# EAGLE library part 1.27_CH_16P (library edrtech_lib)
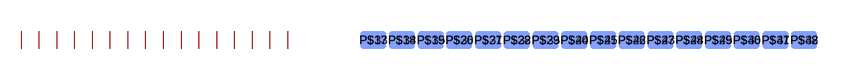
[diagram p58: symbol with the pads of 1.27_CH_16P; footprint 1.27_CH_16P]

Designator prefix -

## 1.27_CH_16P  [1.27_CH_16P]
P$17  P$1
P$18  P$2
P$19  P$3
P$20  P$4
P$21  P$5
P$22  P$6
P$23  P$7
P$24  P$8
P$25  P$9
P$26  P$10
P$27  P$11
P$28  P$12
P$29  P$13
P$30  P$14
P$31  P$15
P$32  P$16
P$33  P$1
P$34  P$2
P$35  P$3
P$36  P$4
P$37  P$5
P$38  P$6
P$39  P$7
P$40  P$8
P$41  P$9
P$42  P$10
P$43  P$11
P$44  P$12
P$45  P$13
P$46  P$14
P$47  P$15
P$48  P$16

## Footprint 1.27_CH_16P (pad centres in mm)
smd 1.15 x 0.762: P$17 -9.525,-0.279; P$18 -8.255,-0.279; P$19 -6.985,-0.279; P$20 -5.715,-0.279; P$21 -4.445,-0.279; P$22 -3.175,-0.279; P$23 -1.905,-0.279; P$24 -0.635,-0.279; P$25 0.635,-0.279; P$26 1.905,-0.279; P$27 3.175,-0.279; P$28 4.445,-0.279; P$29 5.715,-0.279; P$30 6.985,-0.279; P$31 8.255,-0.279; P$32 9.525,-0.279
smd 1.15 x 0.762 bottom: P$33 -9.525,-0.279; P$34 -8.255,-0.279; P$35 -6.985,-0.279; P$36 -5.715,-0.279; P$37 -4.445,-0.279; P$38 -3.175,-0.279; P$39 -1.905,-0.279; P$40 -0.635,-0.279; P$41 0.635,-0.279; P$42 1.905,-0.279; P$43 3.175,-0.279; P$44 4.445,-0.279; P$45 5.715,-0.279; P$46 6.985,-0.279; P$47 8.255,-0.279; P$48 9.525,-0.279